# EAGLE library part JUMPER-7 (library HermitRetro)
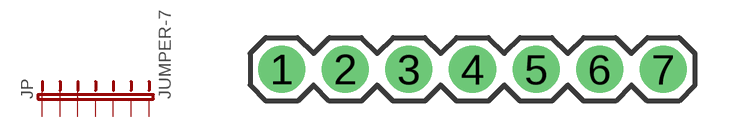
[diagram p22: symbol with the pads of 1X7; footprint 1X7]

Designator prefix JP

## JUMPER-7 (UNIT_PRICE: 0.18; VENDOR_ID: RS Components; VENDOR_SKU: 180-2210)  [1X7]
1  1  pas
2  2  pas
3  3  pas
4  4  pas
5  5  pas
6  6  pas
7  7  pas

## Footprint 1X7 (pad centres in mm)
drill 1.016 pad 1.88: 1 0,0; 2 2.54,0; 3 5.08,0; 4 7.62,0; 5 10.16,0; 6 12.7,0; 7 15.24,0